# Altium footprint library oscilator.PcbLib: 34 footprints (part 3 of 3)
Each footprint in its own frame and in the unit in brackets; x right, y up, seen from the top. Pads: shape width x height; smd on the part's side, far side on the other; paste and mask are expansions set on the pad; w line width, h text height; cw(c..) or ccw(c..) is an arc to the next point about the centre after c.
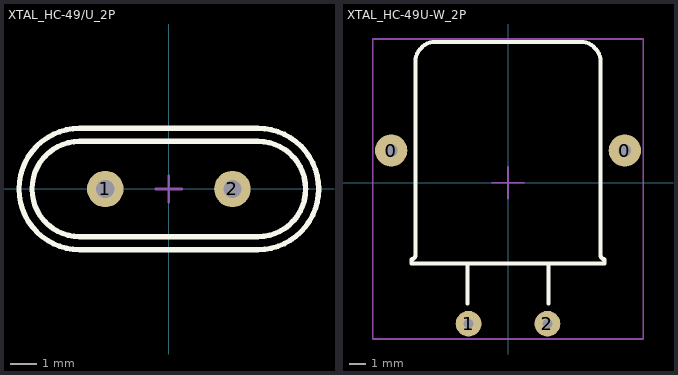
[diagram p2: the footprints below, top view; thin cyan lines are the x and y axes]

## XTAL_HC-49/U_2P [mm] "HC-49/U Leaded Cristal, Body 11.05x4.8mm; Pitch 4.88mm"
height 13.6
pads (2):
  round 1.4 hole 0.7: 1(-2.44,0) 2(2.44,0)
Top Overlay:
  lines w0.2: -5.75,0 cw(c-3.42,0) -3.42,2.33 3.42,2.33 cw(c3.42,0) 5.75,0 cw(c3.42,0) 3.42,-2.33 -3.42,-2.33 cw(c-3.42,0) -5.75,0 ; -5.25,0 cw(c-3.42,0) -3.42,1.83 3.42,1.83 cw(c3.42,0) 5.25,0 cw(c3.42,0) 3.42,-1.83 -3.42,-1.83 cw(c-3.42,0) -5.25,0
Mechanical 1:
  lines w0.1: -5.75,0 cw(c-3.42,0) -3.42,2.33 3.42,2.33 cw(c3.42,0) 5.75,0 cw(c3.42,0) 3.42,-2.33 -3.42,-2.33 cw(c-3.42,0) -5.75,0 ; -5.25,0 cw(c-3.42,0) -3.42,1.83 3.42,1.83 cw(c3.42,0) 5.25,0 cw(c3.42,0) 3.42,-1.83 -3.42,-1.83 cw(c-3.42,0) -5.25,0
Mechanical 15:
  lines w0.1: -0.5,0 0,0 ; 0,-0.5 0,0 ; 0,0.5 0,0 ; 0.5,0 0,0 ; -5.738,0 ccw(c-3.408,0) -3.408,-2.33 3.432,-2.33 ccw(c3.432,0) 5.762,0 ccw(c3.432,0) 3.432,2.33 -3.408,2.33 ccw(c-3.408,0) -5.738,0
3D body "XTAL_CITIZEN_HC-49-U-S.stp": height 3.5, standoff -3.6, extent -5.75,-2.33 5.75,2.33

## XTAL_HC-49U-W_2P [mm] "МД"
height 13.5
pads (4):
  round 2 hole 0.8: 0(-7.25,2) 0(7.25,2)
  round 1.6 hole 0.6: 1(-2.45,-8.75) 2(2.45,-8.75)
Top Overlay:
  lines w0.25: -2.5,-7.5 -2.5,-5 ; 2.5,-7.5 2.5,-5 ; -6,-5 -6,-4.75 ccw(c-6,-4.5) -5.75,-4.5 -5.75,7.5 cw(c-4.5,7.5) -4.5,8.75 4.5,8.75 cw(c4.5,7.5) 5.75,7.5 5.75,-4.5 ccw(c6,-4.5) 6,-4.75 6,-5 -6,-5
Mechanical 1:
  lines w0.1: -2.5,-7.5 -2.5,-5 ; 2.5,-7.5 2.5,-5 ; -6,-5 -6,-4.75 ccw(c-6,-4.5) -5.75,-4.5 -5.75,7.5 cw(c-4.5,7.5) -4.5,8.75 4.5,8.75 cw(c4.5,7.5) 5.75,7.5 5.75,-4.5 ccw(c6,-4.5) 6,-4.75 6,-5 -6,-5
Mechanical 15:
  lines w0.1: -1,0 1,0 ; 0,-1 0,1 ; -8.4,-9.7 -8.4,8.925 8.4,8.925 8.4,-9.7 -8.4,-9.7
3D body "User Library-HC49U.STEP": height 4.82, standoff 0.15, extent -5.673,-6.95 5.5,8.51
3D body: height 2.76, standoff 2.24, extent -2.734,-8.775 -2.216,-4.275
3D body: height 2.76, standoff 2.24, extent -2.735,-9.008 -2.215,-8.492
3D body: height 2.76, standoff 2.24, extent 2.216,-8.775 2.734,-4.275
3D body: height 2.5, standoff -1, extent 2.217,-9.009 2.735,-8.49
3D body: height 2.5, standoff -1, extent -2.733,-9.009 -2.215,-8.49
3D body: height 2.76, standoff 2.24, extent 2.215,-9.008 2.735,-8.492